# EAGLE library part HDR-2X3 (library LITTLEBITS140915)
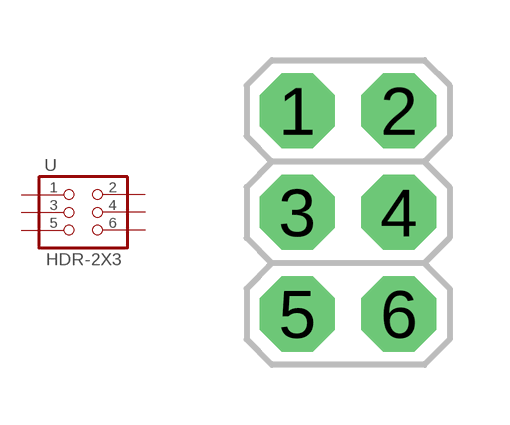
[diagram p55: symbol with the pads of 2X03; footprint 2X03]

Designator prefix -

## HDR-2X3  [2X03]
1  1  pas
2  2  pas
3  3  pas
4  4  pas
5  5  pas
6  6  pas

## Footprint 2X03 (pad centres in mm)
drill 1.016 pad 1.88 octagon: 1 0,5.08; 2 2.54,5.08; 3 0,2.54; 4 2.54,2.54; 5 0,0; 6 2.54,0